# Altium schematic symbol library SCH - MCU - ATMEGA - MICROCHIP ATXMEGA32C3-AU TQFP64.SchLib: 1 symbol
Pins are listed as number, name and electrical type; pins without a type are passive.

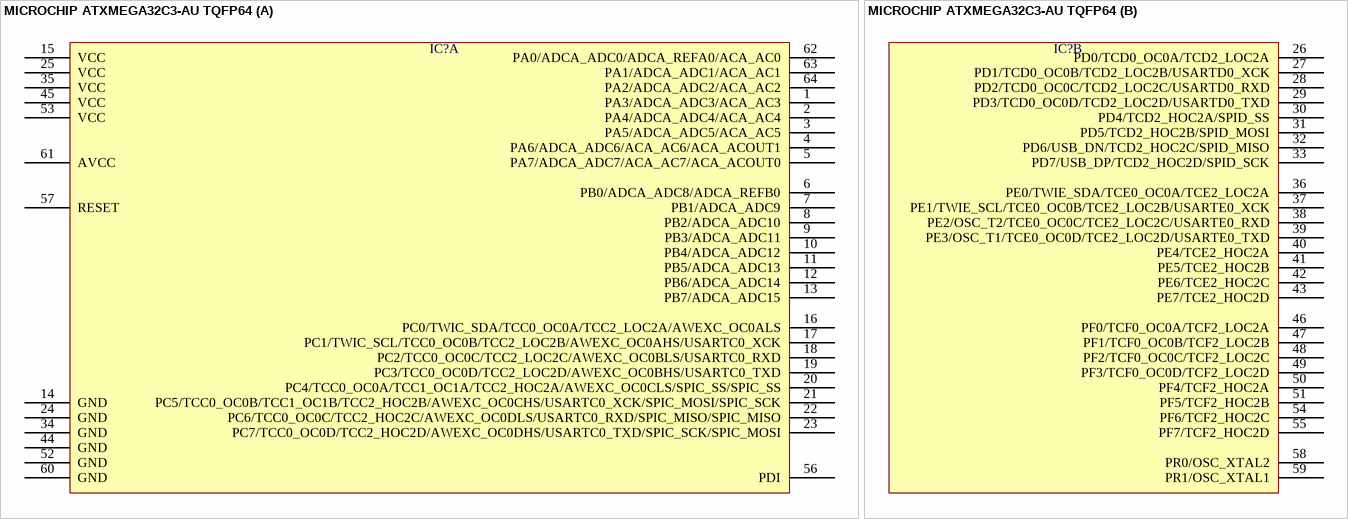
[diagram p0: symbol MICROCHIP ATXMEGA32C3-AU TQFP64]

## MICROCHIP ATXMEGA32C3-AU TQFP64
designator IC?  (value not drawn)
part A pins: 1 PA3/ADCA_ADC3/ACA_AC3, 2 PA4/ADCA_ADC4/ACA_AC4, 3 PA5/ADCA_ADC5/ACA_AC5, 4 PA6/ADCA_ADC6/ACA_AC6/ACA_ACOUT1, 5 PA7/ADCA_ADC7/ACA_AC7/ACA_ACOUT0, 6 PB0/ADCA_ADC8/ADCA_REFB0, 7 PB1/ADCA_ADC9, 8 PB2/ADCA_ADC10, 9 PB3/ADCA_ADC11, 10 PB4/ADCA_ADC12, 11 PB5/ADCA_ADC13, 12 PB6/ADCA_ADC14, 13 PB7/ADCA_ADC15, 14 GND, 15 VCC, 16 PC0/TWIC_SDA/TCC0_OC0A/TCC2_LOC2A/AWEXC_OC0ALS, 17 PC1/TWIC_SCL/TCC0_OC0B/TCC2_LOC2B/AWEXC_OC0AHS/USARTC0_XCK, 18 PC2/TCC0_OC0C/TCC2_LOC2C/AWEXC_OC0BLS/USARTC0_RXD, 19 PC3/TCC0_OC0D/TCC2_LOC2D/AWEXC_OC0BHS/USARTC0_TXD, 20 PC4/TCC0_OC0A/TCC1_OC1A/TCC2_HOC2A/AWEXC_OC0CLS/SPIC_SS/SPIC_SS, 21 PC5/TCC0_OC0B/TCC1_OC1B/TCC2_HOC2B/AWEXC_OC0CHS/USARTC0_XCK/SPIC_MOSI/SPIC_SCK, 22 PC6/TCC0_OC0C/TCC2_HOC2C/AWEXC_OC0DLS/USARTC0_RXD/SPIC_MISO/SPIC_MISO, 23 PC7/TCC0_OC0D/TCC2_HOC2D/AWEXC_OC0DHS/USARTC0_TXD/SPIC_SCK/SPIC_MOSI, 24 GND, 25 VCC, 34 GND, 35 VCC, 44 GND, 45 VCC, 52 GND, 53 VCC, 56 PDI, 57 RESET, 60 GND, 61 AVCC, 62 PA0/ADCA_ADC0/ADCA_REFA0/ACA_AC0, 63 PA1/ADCA_ADC1/ACA_AC1, 64 PA2/ADCA_ADC2/ACA_AC2
part B pins: 26 PD0/TCD0_OC0A/TCD2_LOC2A, 27 PD1/TCD0_OC0B/TCD2_LOC2B/USARTD0_XCK, 28 PD2/TCD0_OC0C/TCD2_LOC2C/USARTD0_RXD, 29 PD3/TCD0_OC0D/TCD2_LOC2D/USARTD0_TXD, 30 PD4/TCD2_HOC2A/SPID_SS, 31 PD5/TCD2_HOC2B/SPID_MOSI, 32 PD6/USB_DN/TCD2_HOC2C/SPID_MISO, 33 PD7/USB_DP/TCD2_HOC2D/SPID_SCK, 36 PE0/TWIE_SDA/TCE0_OC0A/TCE2_LOC2A, 37 PE1/TWIE_SCL/TCE0_OC0B/TCE2_LOC2B/USARTE0_XCK, 38 PE2/OSC_T2/TCE0_OC0C/TCE2_LOC2C/USARTE0_RXD, 39 PE3/OSC_T1/TCE0_OC0D/TCE2_LOC2D/USARTE0_TXD, 40 PE4/TCE2_HOC2A, 41 PE5/TCE2_HOC2B, 42 PE6/TCE2_HOC2C, 43 PE7/TCE2_HOC2D, 46 PF0/TCF0_OC0A/TCF2_LOC2A, 47 PF1/TCF0_OC0B/TCF2_LOC2B, 48 PF2/TCF0_OC0C/TCF2_LOC2C, 49 PF3/TCF0_OC0D/TCF2_LOC2D, 50 PF4/TCF2_HOC2A, 51 PF5/TCF2_HOC2B, 54 PF6/TCF2_HOC2C, 55 PF7/TCF2_HOC2D, 58 PR0/OSC_XTAL2, 59 PR1/OSC_XTAL1